# Altium footprint library Edge_logic_analyzer.PcbLib: 51 footprints (part 4 of 4)
Each footprint in its own frame and in the unit in brackets; x right, y up, seen from the top. Pads: shape width x height; smd on the part's side, far side on the other; paste and mask are expansions set on the pad; w line width, h text height; cw(c..) or ccw(c..) is an arc to the next point about the centre after c.
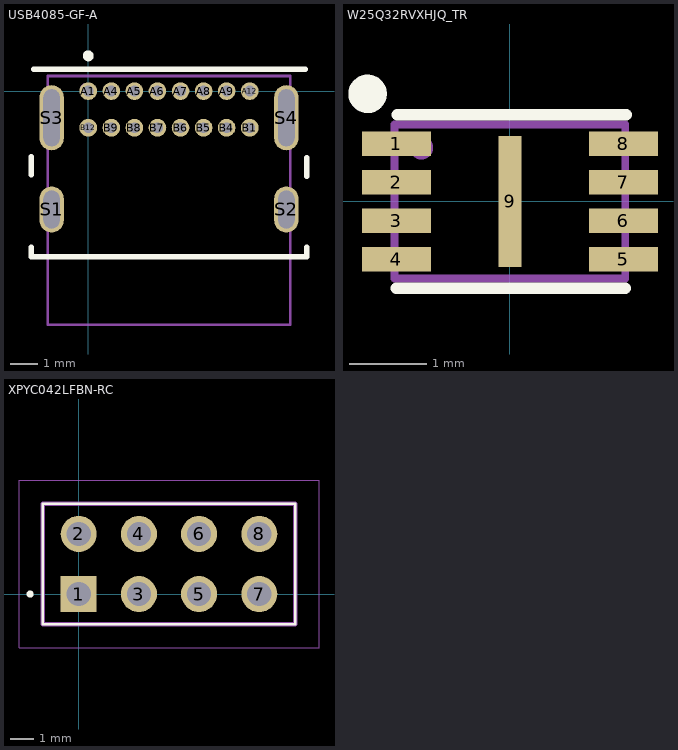
[diagram p3: the footprints below, top view; thin cyan lines are the x and y axes]

## USB4085-GF-A [mm]
height 3.16
pads (20):
  round 0.65 hole 0.4 mask+0.048: A1(0,0) A4(0.85,0) A5(1.7,0) A6(2.55,0) A7(3.4,0) A8(4.25,0) A9(5.1,0) A12(5.95,0) B1(5.95,-1.35) B4(5.1,-1.35) B5(4.25,-1.35) B6(3.4,-1.35) B7(2.55,-1.35) B8(1.7,-1.35) B9(0.85,-1.35) B12(0,-1.35)
  oval 0.9x1.7 hole 0.6 slot 1.4 at 90 deg: S1(-1.35,-4.36) S2(7.3,-4.36)
  oval 0.9x2.4 hole 0.6 slot 2.1 at 90 deg: S3(-1.35,-0.98) S4(7.3,-0.98)
Top Overlay:
  circle w0.2: c0,1.3 r0.1
  lines w0.2: -2.105,-5.75 -2.105,-6.1 8.055,-6.1 8.055,-5.75 ; -2.105,-3.09 -2.105,-2.41 ; -2,0.8 8,0.8 ; 8.055,-3.135 8.055,-2.455
Mechanical 29:
  circle w0.2: c-0.1,0.085 r0.1
  lines w0.1: -1.495,-8.61 -1.495,-6.1 -1.495,0.56 7.445,0.56 7.445,-8.61 -1.495,-8.61
  text "'.Designator'" at -0.572,-4.425 h0.8
3D body "step_temp.STEP": height 3.46, standoff -2.1, extent -1.495,-8.61 7.445,0.56

## W25Q32RVXHJQ_TR [mm]
pads (9):
  rect 0.9x0.32 smd mask+0.038: 1(-1.475,0.75) 2(-1.475,0.25) 3(-1.475,-0.25) 4(-1.475,-0.75) 5(1.475,-0.75) 6(1.475,-0.25) 7(1.475,0.25) 8(1.475,0.75)
  rect 0.3x1.7 smd mask+0.038: 9(0,0)
Top Overlay:
  circle w0.25: c-1.85,1.4 r0.125
  lines w0.15: -1.475,-1.125 1.5,-1.125 ; -1.462,1.125 1.513,1.125
Mechanical 29:
  circle w0.254: c-1.15,0.7 r0.025
  lines w0.1: -1.5,-1 -1.5,1 1.5,1 1.5,-1 -1.5,-1
  text "'.Designator'" at -0.4,0 h0.5
3D body "W25Q32RVXHJQ_TR.stp": height 0.4, standoff 0, extent -1.55,-1 1.55,1

## XPYC042LFBN-RC [mm]
pads (8):
  rect 1.52x1.52 hole 1.02: 1(0,0)
  round 1.52 hole 1.02: 2(0,2.54) 3(2.54,0) 4(2.54,2.54) 5(5.08,0) 6(5.08,2.54) 7(7.62,0) 8(7.62,2.54)
Top Overlay:
  circle w0.2: c-2.05,0 r0.05
  lines w0.1: -1.52,-1.27 -1.52,3.81 9.14,3.81 9.14,-1.27 -1.52,-1.27
Mechanical 15:
  lines w0.05: -2.52,-2.27 -2.52,4.81 10.14,4.81 10.14,-2.27 -2.52,-2.27
Mechanical 29:
  circle w0.254: c-0.025,0 r0.08
  lines w0.2: -1.52,-1.27 -1.52,3.81 9.14,3.81 9.14,-1.27 -1.52,-1.27
  text "'.Designator'" at 1.775,0.95 h1
3D body "PPPC042LFBN-RC.stp": height 8.63, standoff -3.28, extent -1.524,-1.27 9.144,3.81